# EAGLE library part USB-C (library USB-C)
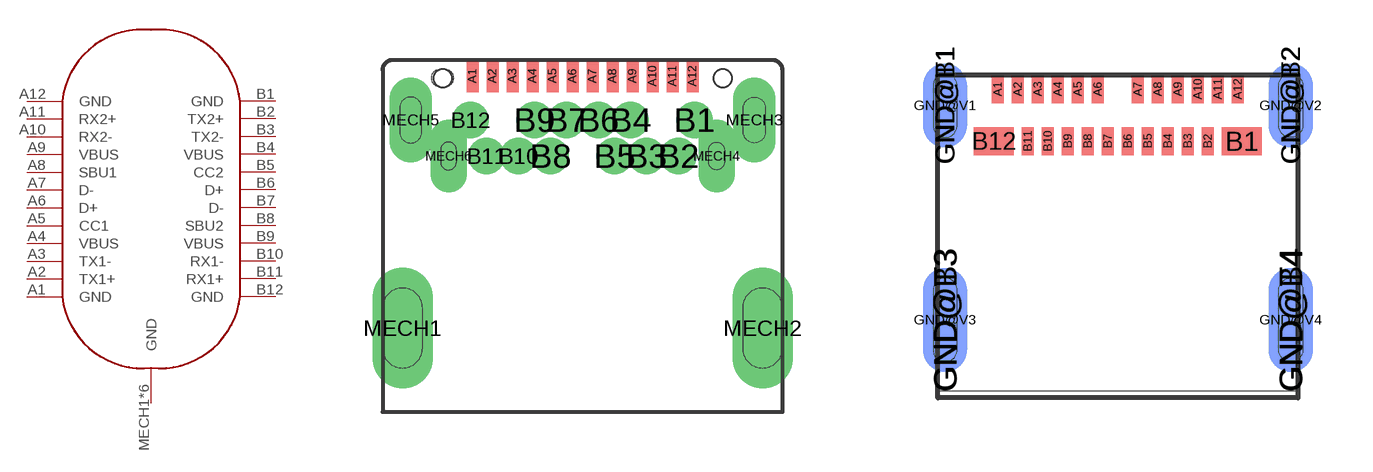
[diagram p0: symbol with the pads of UBC-R112-56C-7ATS-TB(HF); footprints UBC-R112-56C-7ATS-TB(HF), 105450-0101]

Designator prefix X

## USB-C  [UBC-R112-56C-7ATS-TB(HF)]
A1  GND
A2  TX1+
A3  TX1-
A4  VBUS
A5  CC1
A6  D+
A7  D-
A8  SBU1
A9  VBUS
A10  RX2-
A11  RX2+
A12  GND
B1  GND
B2  TX2+
B3  TX2-
B4  VBUS
B5  CC2
B6  D+
B7  D-
B8  SBU2
B9  VBUS
B10  RX1-
B11  RX1+
B12  GND
MECH1  GND
MECH2  GND
MECH3  GND
MECH4  GND
MECH5  GND
MECH6  GND

## USB-CMOLEX-105450-0101  [105450-0101]
A1  GND
A2  TX1+
A3  TX1-
A4  VBUS
A5  CC1
A6  D+
A7  D-
A8  SBU1
A9  VBUS
A10  RX2-
A11  RX2+
A12  GND
B1  GND
B2  TX2+
B3  TX2-
B4  VBUS
B5  CC2
B6  D+
B7  D-
B8  SBU2
B9  VBUS
B10  RX1-
B11  RX1+
B12  GND
GND@B1  GND
GND@B2  GND
GND@B3  GND
GND@B4  GND
GND@T1  GND
GND@T2  GND
GND@T3  GND
GND@T4  GND
GND@V1  GND
GND@V2  GND
GND@V3  GND
GND@V4  GND

## Footprint UBC-R112-56C-7ATS-TB(HF) (pad centres in mm)
smd 0.3 x 0.8: A1 -2.75,0.05; A2 -2.25,0.05; A3 -1.75,0.05; A4 -1.25,0.05; A5 -0.75,0.05; A6 -0.25,0.05; A7 0.25,0.05; A8 0.75,0.05; A9 1.25,0.05; A10 1.75,0.05; A11 2.25,0.05; A12 2.75,0.05
drill 0.4 pad 0.65: B1 2.8,-1.05; B2 2.4,-1.95; B3 1.6,-1.95; B4 1.2,-1.05; B5 0.8,-1.95; B6 0.4,-1.05; B7 -0.4,-1.05; B8 -0.8,-1.95; B9 -1.2,-1.05; B10 -1.6,-1.95; B11 -2.4,-1.95; B12 -2.8,-1.05
drill 1 pad 1.2 long: MECH1 -4.5,-6.25; MECH2 4.5,-6.25
drill 0.55 pad 0.75 long: MECH3 4.295,-1.05; MECH5 -4.295,-1.05
drill 0.4 pad 0.6 long: MECH4 3.35,-1.95; MECH6 -3.35,-1.95
hole 0.45 at 3.5,0
hole 0.45 at -3.5,0

## Footprint 105450-0101 (pad centres in mm)
Molex 105450-0101
smd 0.3 x 0.7: A1 -3,7.54; A2 -2.5,7.54; A3 -2,7.54; A4 -1.5,7.54; A5 -1,7.54; A6 -0.5,7.54; A7 0.5,7.54; A8 1,7.54; A9 1.5,7.54; A10 2,7.54; A11 2.5,7.54; A12 3,7.54; B2 2.25,6.24; B3 1.75,6.24; B4 1.25,6.24; B5 0.75,6.24; B6 0.25,6.24; B7 -0.25,6.24; B8 -0.75,6.24; B9 -1.25,6.24; B10 -1.75,6.24; B11 -2.25,6.24
smd 1 x 0.7: B1 3.1,6.24; B12 -3.1,6.24
smd 1.1 x 2.1 bottom: GND@B1 -4.32,7.13; GND@B2 4.32,7.13
smd 1.1 x 2.6 bottom: GND@B3 -4.32,1.77; GND@B4 4.32,1.77
smd 1.1 x 2.1: GND@T1 -4.32,7.13; GND@T2 4.32,7.13
smd 1.1 x 2.6: GND@T3 -4.32,1.77; GND@T4 4.32,1.77
drill 0.6 pad 1.1: GND@V1 -4.32,7.13; GND@V2 4.32,7.13; GND@V3 -4.32,1.77; GND@V4 4.32,1.77